# Altium integrated library gas_sensor.IntLib: 1 symbol
Pins are listed as number, name and electrical type; pins without a type are passive.

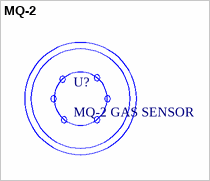
[diagram p0: symbol MQ-2]

## MQ-2
designator U?, comment MQ-2 GAS SENSOR
FEATURES / Wide detecting scope Fast response and High sensitivity / Stable and long life Simple drive circuit; ComponentLink1Description: data sheet; ComponentLink1URL: https://www.mouser.com/datasheet/2/321/605-00008-MQ-2-Datasheet-370464.pdf
footprint configuration